# EAGLE library part ADUM3070ARQZ (library ADUM3070)
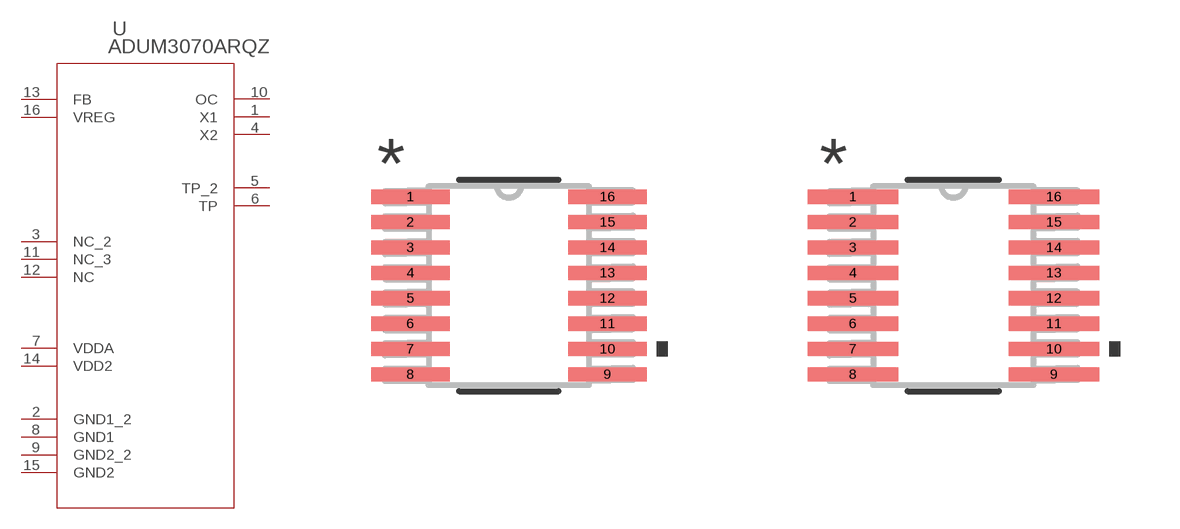
[diagram p0: symbol with the pads of RQ_16_ADI; footprints RQ_16_ADI, RQ_16_ADI-M]

Designator prefix U

## ADUM3070ARQZ (COPYRIGHT: Copyright (C) 2022 Ultra Librarian. All rights reserved.; MANUFACTURER_PART_NUMBER: ADUM3070ARQZ; MFR_NAME: Analog Devices Inc)  [RQ_16_ADI]
1  X1  out
2  GND1_2  pwr
3  NC_2  nc
4  X2  out
5  TP_2  pas
6  TP  pas
7  VDDA  pwr
8  GND1  pwr
9  GND2_2  pwr
10  OC  out
11  NC_3  nc
12  NC  nc
13  FB  in
14  VDD2  pwr
15  GND2  pwr
16  VREG  in

## ADUM3070ARQZRQ_16_ADI-M (COPYRIGHT: Copyright (C) 2022 Ultra Librarian. All rights reserved.; MANUFACTURER_PART_NUMBER: ADUM3070ARQZ; MFR_NAME: Analog Devices Inc)  [RQ_16_ADI-M]
Pads as for RQ_16_ADI

## ADUM3070ARQZRQ_16_ADI-L (COPYRIGHT: Copyright (C) 2022 Ultra Librarian. All rights reserved.; MANUFACTURER_PART_NUMBER: ADUM3070ARQZ; MFR_NAME: Analog Devices Inc)  [RQ_16_ADI-L]
Pads as for RQ_16_ADI

## Footprint RQ_16_ADI (pad centres in mm)
smd 1.97 x 0.355: 1 -2.464,2.223; 2 -2.464,1.587; 3 -2.464,0.953; 4 -2.464,0.318; 5 -2.464,-0.318; 6 -2.464,-0.953; 7 -2.464,-1.587; 8 -2.464,-2.223; 9 2.464,-2.223; 10 2.464,-1.587; 11 2.464,-0.953; 12 2.464,-0.318; 13 2.464,0.318; 14 2.464,0.953; 15 2.464,1.587; 16 2.464,2.223

## Footprint RQ_16_ADI-M (pad centres in mm)
smd 2.27 x 0.355: 1 -2.514,2.223; 2 -2.514,1.587; 3 -2.514,0.953; 4 -2.514,0.318; 5 -2.514,-0.318; 6 -2.514,-0.953; 7 -2.514,-1.587; 8 -2.514,-2.223; 9 2.514,-2.223; 10 2.514,-1.587; 11 2.514,-0.953; 12 2.514,-0.318; 13 2.514,0.318; 14 2.514,0.953; 15 2.514,1.587; 16 2.514,2.223

## Footprint RQ_16_ADI-L (pad centres in mm)
smd 1.67 x 0.305: 1 -2.414,2.223; 2 -2.414,1.587; 3 -2.414,0.953; 4 -2.414,0.318; 5 -2.414,-0.318; 6 -2.414,-0.953; 7 -2.414,-1.587; 8 -2.414,-2.223; 9 2.414,-2.223; 10 2.414,-1.587; 11 2.414,-0.953; 12 2.414,-0.318; 13 2.414,0.318; 14 2.414,0.953; 15 2.414,1.587; 16 2.414,2.223